# Altium schematic symbol library XT60UPB-M.SchLib: 1 symbol
Pins are listed as number, name and electrical type; pins without a type are passive.

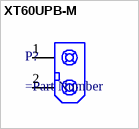
[diagram p0: symbol XT60UPB-M]

## XT60UPB-M
designator P?
=Description
pins: 1, 2